# Altium schematic symbol library SN74LVC1T45DCKR.SchLib: 1 symbol
Pins are listed as number, name and electrical type; pins without a type are passive.

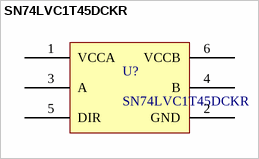
[diagram p0: symbol SN74LVC1T45DCKR]

## SN74LVC1T45DCKR
designator U?
Single-Bit Dual-Supply Bus Transceiver With Configurable Voltage  Translation and 3-State Outputs, TI
footprint TSOP65P210X110-6N (TSOP, 6-Leads, Body 2.00x1.25mm, Pitch 0.65mm, IPC Medium Density)
pins: 1 VCCA, 2 GND, 3 A, 4 B, 5 DIR, 6 VCCB